# Altium footprint library Chip Inductor.PcbLib: 24 footprints (part 2 of 2)
Each footprint in its own frame and in the unit in brackets; x right, y up, seen from the top. Pads: shape width x height; smd on the part's side, far side on the other; paste and mask are expansions set on the pad; w line width, h text height; cw(c..) or ccw(c..) is an arc to the next point about the centre after c.
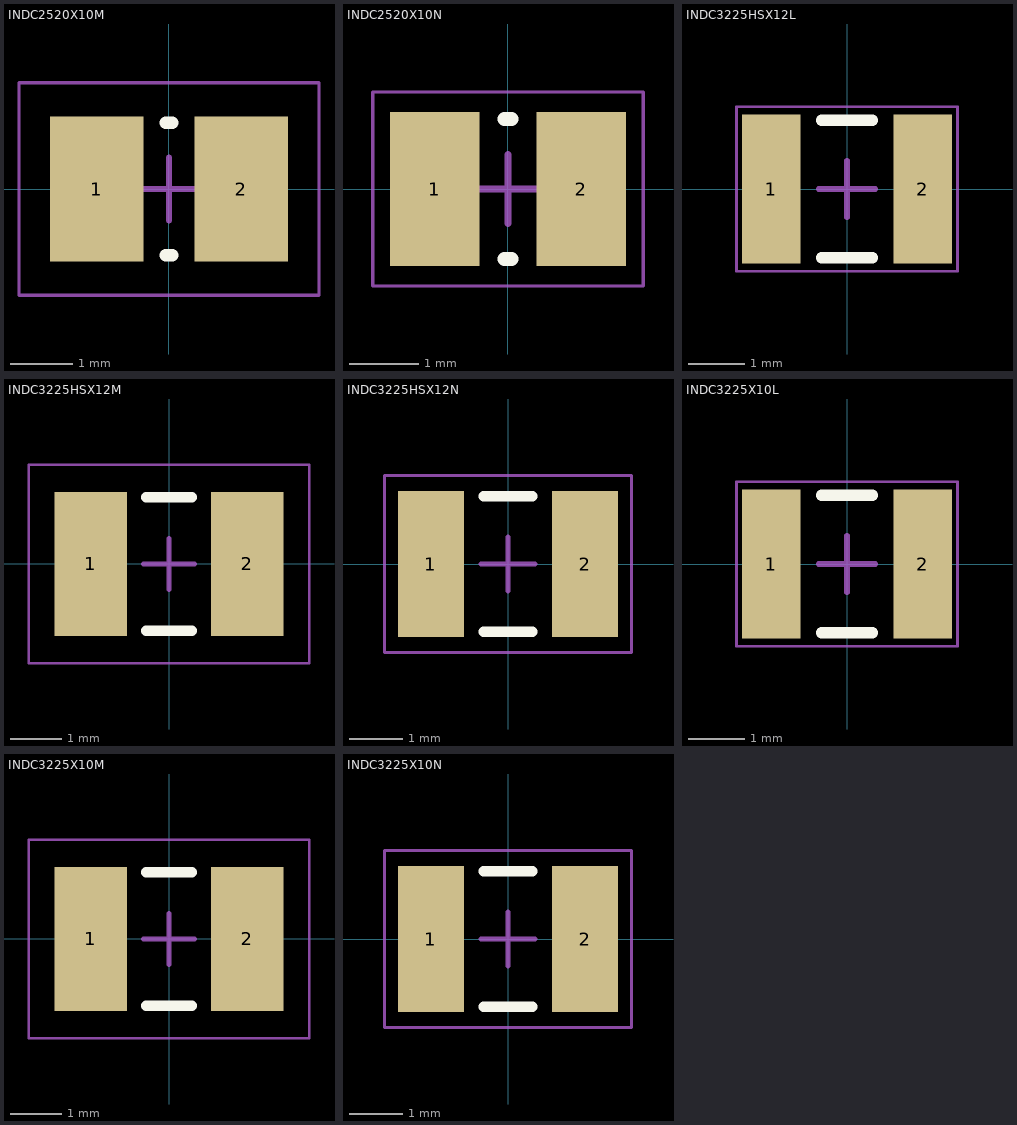
[diagram p1: the footprints below, top view; thin cyan lines are the x and y axes]

## INDC2520X10M [mm] "Chip Inductor, Body 1.0x0.8mm, IPC Low Density (1008 Imperial)"
height 1
pads (2):
  rect 1.49x2.32 smd: 1(-1.155,0) 2(1.155,0)
Top Overlay:
  lines w0.2: -0.05,-1.06 0.05,-1.06 ; -0.05,1.06 0.05,1.06
Mechanical 15:
  lines w0.05: -2.4,-1.7 2.4,-1.7 2.4,1.7 -2.4,1.7 -2.4,-1.7
  lines w0.1: -0.5,0 0.5,0 ; 0,-0.5 0,0.5
3D body "STEP-WE-PMCI-1008-rev1.stp": height 1.12, standoff 0.12, extent -1.25,-1 1.25,1

## INDC2520X10N [mm] "Chip Inductor, Body 1.0x0.8mm, IPC Medium Density (1008 Imperial)"
height 1
pads (2):
  rect 1.29x2.22 smd: 1(-1.055,0) 2(1.055,0)
Top Overlay:
  lines w0.2: -0.05,-1.01 0.05,-1.01 ; -0.05,1.01 0.05,1.01
Mechanical 15:
  lines w0.05: -1.95,-1.4 -1.95,1.4 1.95,1.4 1.95,-1.4 -1.95,-1.4
  lines w0.1: -0.5,0 0.5,0 ; 0,-0.5 0,0.5
3D body "STEP-WE-PMCI-1008-rev1.stp": height 1.12, standoff 0.12, extent -1.25,-1 1.25,1

## INDC3225HSX12L [mm] "Chip Inductor, Body 1.2x1.0mm, IPC High Density (1210HS Imperial)"
height 1.2
pads (2):
  rect 1.03x2.62 smd: 1(-1.335,0) 2(1.335,0)
Top Overlay:
  lines w0.2: -0.45,-1.21 0.45,-1.21 ; -0.45,1.21 0.45,1.21
Mechanical 15:
  lines w0.05: -1.95,-1.45 1.95,-1.45 1.95,1.45 -1.95,1.45 -1.95,-1.45
  lines w0.1: -0.5,0 0.5,0 ; 0,-0.5 0,0.5
3D body "STEP-WE-PMCI-1210_HS-rev1.stp": height 1.22, standoff 0.02, extent -1.6,-1.25 1.6,1.25

## INDC3225HSX12M [mm] "Chip Inductor, Body 1.2x1.0mm, IPC Low Density (1210HS Imperial)"
height 1.2
pads (2):
  rect 1.43x2.82 smd: 1(-1.535,0) 2(1.535,0)
Top Overlay:
  lines w0.2: -0.45,-1.31 0.45,-1.31 ; -0.45,1.31 0.45,1.31
Mechanical 15:
  lines w0.05: -2.75,-1.95 -2.75,1.95 2.75,1.95 2.75,-1.95 -2.75,-1.95
  lines w0.1: -0.5,0 0.5,0 ; 0,-0.5 0,0.5
3D body "STEP-WE-PMCI-1210_HS-rev1.stp": height 1.22, standoff 0.02, extent -1.6,-1.25 1.6,1.25

## INDC3225HSX12N [mm] "Chip Inductor, Body 1.2x1.0mm, IPC Medium Density (1210HS Imperial)"
height 1.2
pads (2):
  rect 1.23x2.72 smd: 1(-1.435,0) 2(1.435,0)
Top Overlay:
  lines w0.2: -0.45,-1.26 0.45,-1.26 ; -0.45,1.26 0.45,1.26
Mechanical 15:
  lines w0.05: -2.3,-1.65 -2.3,1.65 2.3,1.65 2.3,-1.65 -2.3,-1.65
  lines w0.1: -0.5,0 0.5,0 ; 0,-0.5 0,0.5
3D body "STEP-WE-PMCI-1210_HS-rev1.stp": height 1.22, standoff 0.02, extent -1.6,-1.25 1.6,1.25

## INDC3225X10L [mm] "Chip Inductor, Body 1.2x1.0mm, IPC High Density (1210 Imperial)"
height 1
pads (2):
  rect 1.03x2.62 smd: 1(-1.335,0) 2(1.335,0)
Top Overlay:
  lines w0.2: -0.45,-1.21 0.45,-1.21 ; -0.45,1.21 0.45,1.21
Mechanical 15:
  lines w0.05: -1.95,-1.45 -1.95,1.45 1.95,1.45 1.95,-1.45 -1.95,-1.45
  lines w0.1: -0.5,0 0.5,0 ; 0,-0.5 0,0.5
3D body "STEP-WE-PMCI-1210-rev1.stp": height 1.02, standoff 0.02, extent -1.6,-1.25 1.6,1.25

## INDC3225X10M [mm] "Chip Inductor, Body 1.2x1.0mm, IPC Low Density (1210 Imperial)"
height 1
pads (2):
  rect 1.43x2.82 smd: 1(-1.535,0) 2(1.535,0)
Top Overlay:
  lines w0.2: -0.45,-1.31 0.45,-1.31 ; -0.45,1.31 0.45,1.31
Mechanical 15:
  lines w0.05: -2.75,-1.95 2.75,-1.95 2.75,1.95 -2.75,1.95 -2.75,-1.95
  lines w0.1: -0.5,0 0.5,0 ; 0,-0.5 0,0.5
3D body "STEP-WE-PMCI-1210-rev1.stp": height 1.02, standoff 0.02, extent -1.6,-1.25 1.6,1.25

## INDC3225X10N [mm] "Chip Inductor, Body 1.2x1.0mm, IPC Medium Density (1210 Imperial)"
height 1
pads (2):
  rect 1.23x2.72 smd: 1(-1.435,0) 2(1.435,0)
Top Overlay:
  lines w0.2: -0.45,-1.26 0.45,-1.26 ; -0.45,1.26 0.45,1.26
Mechanical 15:
  lines w0.05: -2.3,-1.65 -2.3,1.65 2.3,1.65 2.3,-1.65 -2.3,-1.65
  lines w0.1: -0.5,0 0.5,0 ; 0,-0.5 0,0.5
3D body "STEP-WE-PMCI-1210-rev1.stp": height 1.02, standoff 0.02, extent -1.6,-1.25 1.6,1.25